# EAGLE library part TWI_FRAM (library FRAM)
TWI FRAM SOIC8 chip Cypress CY15B004J-SXE family
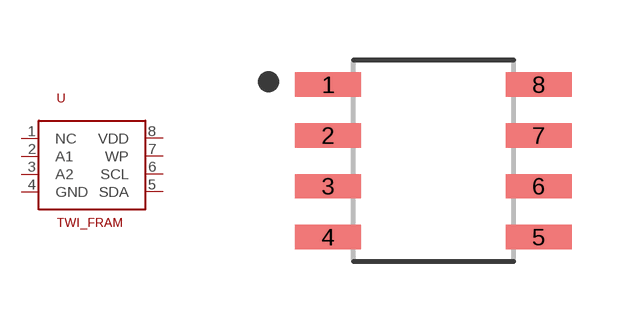
[diagram p0: symbol with the pads of SOIC127P600X175-8N; footprint SOIC127P600X175-8N]

Designator prefix U

## TWI_FRAM  [SOIC127P600X175-8N]
1  NC
2  A1
3  A2
4  GND
5  SDA
6  SCL
7  WP
8  VDD  in

## Footprint SOIC127P600X175-8N (pad centres in mm)
smd 1.65 x 0.61: 1 -2.635,1.905; 2 -2.635,0.635; 3 -2.635,-0.635; 4 -2.635,-1.905; 5 2.635,-1.905; 6 2.635,-0.635; 7 2.635,0.635; 8 2.635,1.905